# Altium schematic symbol library Diodes.SchLib: 2 symbols
Pins are listed as number, name and electrical type; pins without a type are passive.

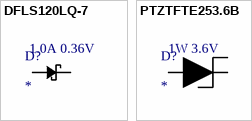
[diagram p0: symbols DFLS120LQ-7 to PTZTFTE253.6B]

## DFLS120LQ-7
designator D?
Schottky Diode
footprint SDIODE (DFLS120LQ-7)
pins: 1, 2
text: 1.0A 0.36V

## PTZTFTE253.6B
designator D?
Zener Diode
footprint ZDIODSMA1810X2M (Chip Diode, 2-Leads, Body 5.00x2.60mm, IPC Low Density)
pins: 1, 2
text: 1W 3.6V